# Altium footprint library Package_DIP.PcbLib: 281 footprints (part 17 of 18)
Each footprint in its own frame and in the unit in brackets; x right, y up, seen from the top. Pads: shape width x height; smd on the part's side, far side on the other; paste and mask are expansions set on the pad; w line width, h text height; cw(c..) or ccw(c..) is an arc to the next point about the centre after c.
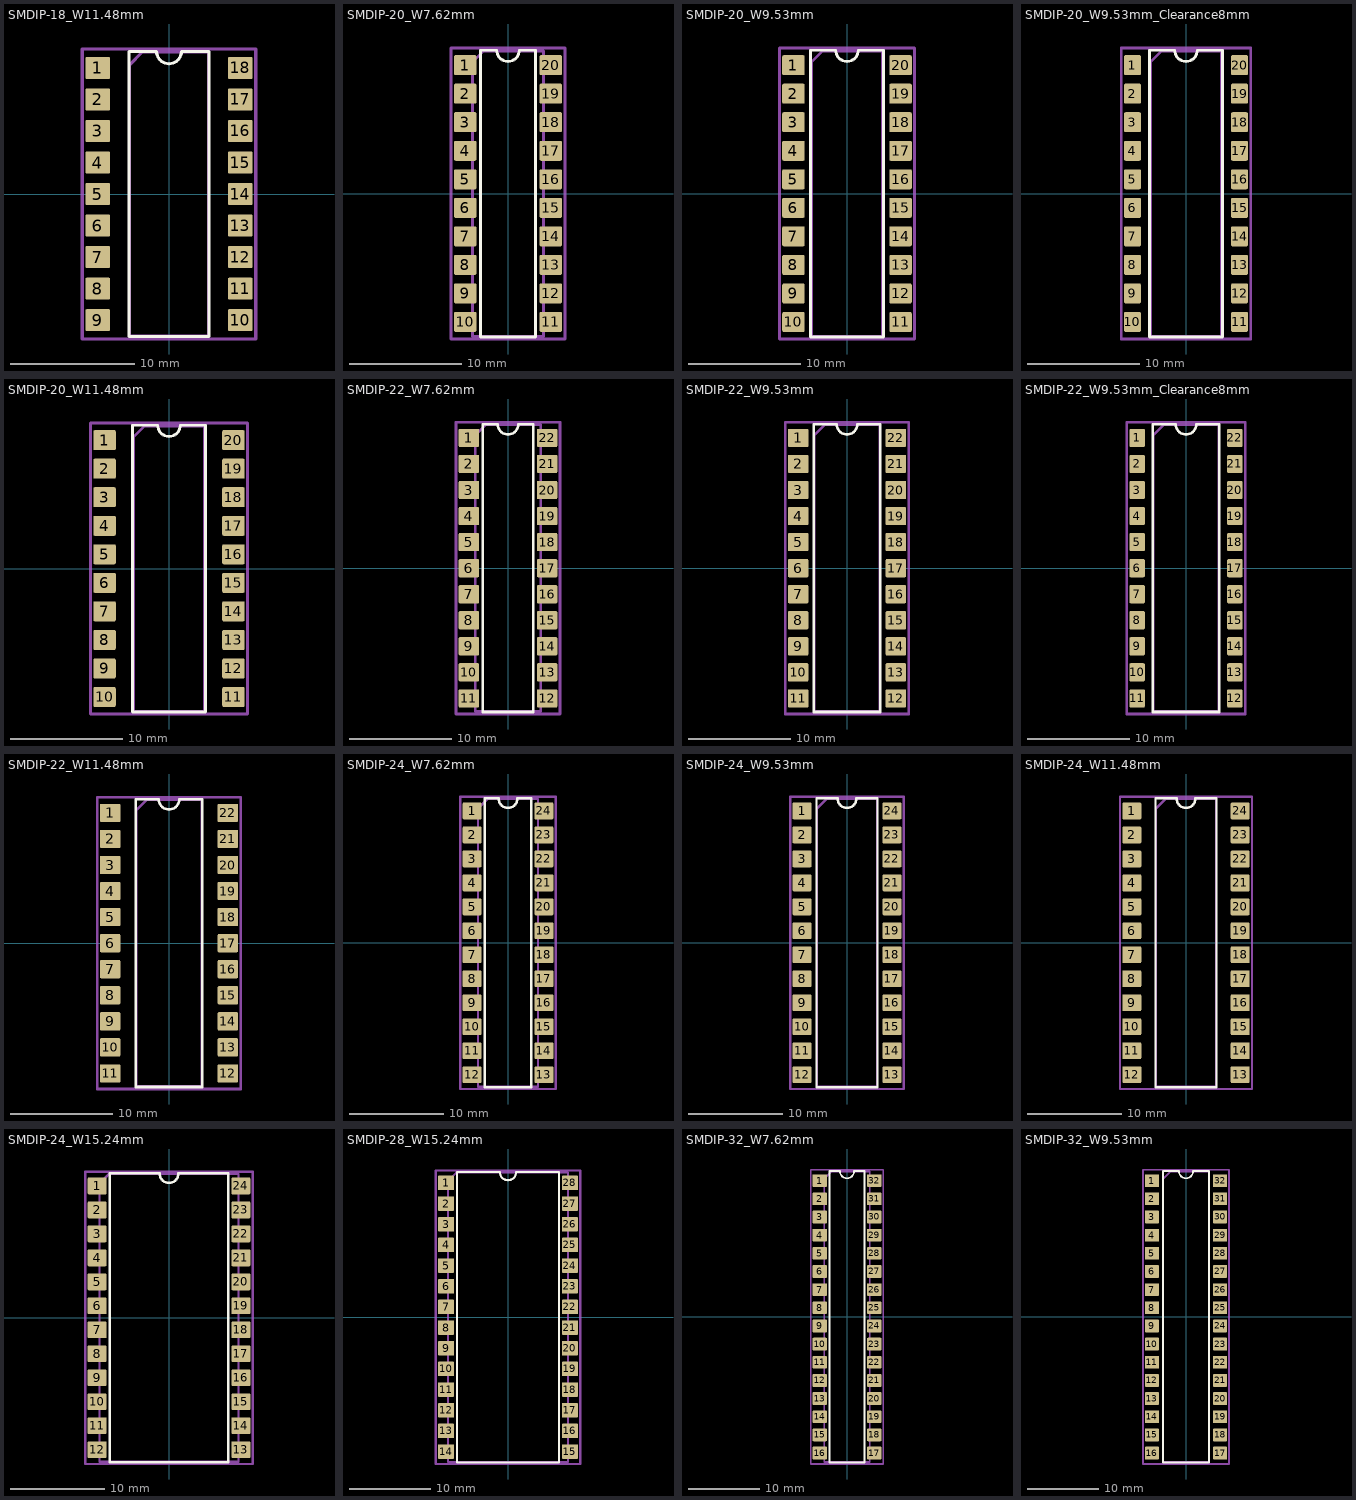
[diagram p16: the footprints below, top view; thin cyan lines are the x and y axes]

## SMDIP-18_W11.48mm [mm]
pads (18):
  rrect14% 2x1.78 smd: 1(-5.74,10.16) 2(-5.74,7.62) 3(-5.74,5.08) 4(-5.74,2.54) 5(-5.74,0) 6(-5.74,-2.54) 7(-5.74,-5.08) 8(-5.74,-7.62) 9(-5.74,-10.16) 10(5.74,-10.16) 11(5.74,-7.62) 12(5.74,-5.08) 13(5.74,-2.54) 14(5.74,0) 15(5.74,2.54) 16(5.74,5.08) 17(5.74,7.62) 18(5.74,10.16)
F.SilkS:
  lines w0.254: -3.235,-11.49 3.235,-11.49 3.235,11.49 1,11.49 cw(c0,11.49) -1,11.49 -3.235,11.49 -3.235,-11.49
Top Assembly:
  lines w0.254: -3.175,-11.43 3.175,-11.43 3.175,11.43 -2.175,11.43 -3.175,10.43 -3.175,-11.43
  text "'.Designator'" at 0.84,-4.047 h1
Top Courtyard:
  lines w0.254: -6.99,-11.68 6.99,-11.68 6.99,11.68 -6.99,11.68 -6.99,-11.68
Top Designator:
  text ".Designator" at -7.618,-0.508 h1.52

## SMDIP-20_W7.62mm [mm]
pads (20):
  rrect14% 2x1.78 smd: 1(-3.81,11.43) 2(-3.81,8.89) 3(-3.81,6.35) 4(-3.81,3.81) 5(-3.81,1.27) 6(-3.81,-1.27) 7(-3.81,-3.81) 8(-3.81,-6.35) 9(-3.81,-8.89) 10(-3.81,-11.43) 11(3.81,-11.43) 12(3.81,-8.89) 13(3.81,-6.35) 14(3.81,-3.81) 15(3.81,-1.27) 16(3.81,1.27) 17(3.81,3.81) 18(3.81,6.35) 19(3.81,8.89) 20(3.81,11.43)
F.SilkS:
  lines w0.254: -2.45,-12.76 2.45,-12.76 2.45,12.76 1,12.76 cw(c0,12.76) -1,12.76 -2.45,12.76 -2.45,-12.76
Top Assembly:
  lines w0.254: -3.175,-12.7 3.175,-12.7 3.175,12.7 -2.175,12.7 -3.175,11.7 -3.175,-12.7
  text "'.Designator'" at 0.84,-4.047 h1
Top Courtyard:
  lines w0.254: -5.07,-12.95 5.07,-12.95 5.07,12.95 -5.07,12.95 -5.07,-12.95
Top Designator:
  text ".Designator" at -7.618,-0.508 h1.52

## SMDIP-20_W9.53mm [mm]
pads (20):
  rrect14% 2x1.78 smd: 1(-4.765,11.43) 2(-4.765,8.89) 3(-4.765,6.35) 4(-4.765,3.81) 5(-4.765,1.27) 6(-4.765,-1.27) 7(-4.765,-3.81) 8(-4.765,-6.35) 9(-4.765,-8.89) 10(-4.765,-11.43) 11(4.765,-11.43) 12(4.765,-8.89) 13(4.765,-6.35) 14(4.765,-3.81) 15(4.765,-1.27) 16(4.765,1.27) 17(4.765,3.81) 18(4.765,6.35) 19(4.765,8.89) 20(4.765,11.43)
F.SilkS:
  lines w0.254: -3.235,-12.76 3.235,-12.76 3.235,12.76 1,12.76 cw(c0,12.76) -1,12.76 -3.235,12.76 -3.235,-12.76
Top Assembly:
  lines w0.254: -3.175,-12.7 3.175,-12.7 3.175,12.7 -2.175,12.7 -3.175,11.7 -3.175,-12.7
  text "'.Designator'" at 0.84,-4.047 h1
Top Courtyard:
  lines w0.254: -6.02,-12.95 6.02,-12.95 6.02,12.95 -6.02,12.95 -6.02,-12.95
Top Designator:
  text ".Designator" at -7.618,-0.508 h1.52

## SMDIP-20_W9.53mm_Clearance8mm [mm]
pads (20):
  rrect17% 1.5x1.78 smd: 1(-4.765,11.43) 2(-4.765,8.89) 3(-4.765,6.35) 4(-4.765,3.81) 5(-4.765,1.27) 6(-4.765,-1.27) 7(-4.765,-3.81) 8(-4.765,-6.35) 9(-4.765,-8.89) 10(-4.765,-11.43) 11(4.765,-11.43) 12(4.765,-8.89) 13(4.765,-6.35) 14(4.765,-3.81) 15(4.765,-1.27) 16(4.765,1.27) 17(4.765,3.81) 18(4.765,6.35) 19(4.765,8.89) 20(4.765,11.43)
F.SilkS:
  lines w0.254: -3.235,-12.76 3.235,-12.76 3.235,12.76 1,12.76 cw(c0,12.76) -1,12.76 -3.235,12.76 -3.235,-12.76
Top Assembly:
  lines w0.254: -3.175,-12.7 3.175,-12.7 3.175,12.7 -2.175,12.7 -3.175,11.7 -3.175,-12.7
  text "'.Designator'" at 0.84,-4.047 h1
Top Courtyard:
  lines w0.254: -5.77,-12.95 5.77,-12.95 5.77,12.95 -5.77,12.95 -5.77,-12.95
Top Designator:
  text ".Designator" at -7.618,-0.508 h1.52

## SMDIP-20_W11.48mm [mm]
pads (20):
  rrect14% 2x1.78 smd: 1(-5.74,11.43) 2(-5.74,8.89) 3(-5.74,6.35) 4(-5.74,3.81) 5(-5.74,1.27) 6(-5.74,-1.27) 7(-5.74,-3.81) 8(-5.74,-6.35) 9(-5.74,-8.89) 10(-5.74,-11.43) 11(5.74,-11.43) 12(5.74,-8.89) 13(5.74,-6.35) 14(5.74,-3.81) 15(5.74,-1.27) 16(5.74,1.27) 17(5.74,3.81) 18(5.74,6.35) 19(5.74,8.89) 20(5.74,11.43)
F.SilkS:
  lines w0.254: -3.235,-12.76 3.235,-12.76 3.235,12.76 1,12.76 cw(c0,12.76) -1,12.76 -3.235,12.76 -3.235,-12.76
Top Assembly:
  lines w0.254: -3.175,-12.7 3.175,-12.7 3.175,12.7 -2.175,12.7 -3.175,11.7 -3.175,-12.7
  text "'.Designator'" at 0.84,-4.047 h1
Top Courtyard:
  lines w0.254: -6.99,-12.95 6.99,-12.95 6.99,12.95 -6.99,12.95 -6.99,-12.95
Top Designator:
  text ".Designator" at -7.618,-0.508 h1.52

## SMDIP-22_W7.62mm [mm]
pads (22):
  rrect14% 2x1.78 smd: 1(-3.81,12.7) 2(-3.81,10.16) 3(-3.81,7.62) 4(-3.81,5.08) 5(-3.81,2.54) 6(-3.81,0) 7(-3.81,-2.54) 8(-3.81,-5.08) 9(-3.81,-7.62) 10(-3.81,-10.16) 11(-3.81,-12.7) 12(3.81,-12.7) 13(3.81,-10.16) 14(3.81,-7.62) 15(3.81,-5.08) 16(3.81,-2.54) 17(3.81,0) 18(3.81,2.54) 19(3.81,5.08) 20(3.81,7.62) 21(3.81,10.16) 22(3.81,12.7)
F.SilkS:
  lines w0.254: -2.45,-14.03 2.45,-14.03 2.45,14.03 1,14.03 cw(c0,14.03) -1,14.03 -2.45,14.03 -2.45,-14.03
Top Assembly:
  lines w0.254: -3.175,-13.97 3.175,-13.97 3.175,13.97 -2.175,13.97 -3.175,12.97 -3.175,-13.97
  text "'.Designator'" at 0.84,-4.047 h1
Top Courtyard:
  lines w0.254: -5.07,-14.22 5.07,-14.22 5.07,14.22 -5.07,14.22 -5.07,-14.22
Top Designator:
  text ".Designator" at -7.618,-0.508 h1.52

## SMDIP-22_W9.53mm [mm]
pads (22):
  rrect14% 2x1.78 smd: 1(-4.765,12.7) 2(-4.765,10.16) 3(-4.765,7.62) 4(-4.765,5.08) 5(-4.765,2.54) 6(-4.765,0) 7(-4.765,-2.54) 8(-4.765,-5.08) 9(-4.765,-7.62) 10(-4.765,-10.16) 11(-4.765,-12.7) 12(4.765,-12.7) 13(4.765,-10.16) 14(4.765,-7.62) 15(4.765,-5.08) 16(4.765,-2.54) 17(4.765,0) 18(4.765,2.54) 19(4.765,5.08) 20(4.765,7.62) 21(4.765,10.16) 22(4.765,12.7)
F.SilkS:
  lines w0.254: -3.235,-14.03 3.235,-14.03 3.235,14.03 1,14.03 cw(c0,14.03) -1,14.03 -3.235,14.03 -3.235,-14.03
Top Assembly:
  lines w0.254: -3.175,-13.97 3.175,-13.97 3.175,13.97 -2.175,13.97 -3.175,12.97 -3.175,-13.97
  text "'.Designator'" at 0.84,-4.047 h1
Top Courtyard:
  lines w0.254: -6.02,-14.22 6.02,-14.22 6.02,14.22 -6.02,14.22 -6.02,-14.22
Top Designator:
  text ".Designator" at -7.618,-0.508 h1.52

## SMDIP-22_W9.53mm_Clearance8mm [mm]
pads (22):
  rrect17% 1.5x1.78 smd: 1(-4.765,12.7) 2(-4.765,10.16) 3(-4.765,7.62) 4(-4.765,5.08) 5(-4.765,2.54) 6(-4.765,0) 7(-4.765,-2.54) 8(-4.765,-5.08) 9(-4.765,-7.62) 10(-4.765,-10.16) 11(-4.765,-12.7) 12(4.765,-12.7) 13(4.765,-10.16) 14(4.765,-7.62) 15(4.765,-5.08) 16(4.765,-2.54) 17(4.765,0) 18(4.765,2.54) 19(4.765,5.08) 20(4.765,7.62) 21(4.765,10.16) 22(4.765,12.7)
F.SilkS:
  lines w0.254: -3.235,-14.03 3.235,-14.03 3.235,14.03 1,14.03 cw(c0,14.03) -1,14.03 -3.235,14.03 -3.235,-14.03
Top Assembly:
  lines w0.254: -3.175,-13.97 3.175,-13.97 3.175,13.97 -2.175,13.97 -3.175,12.97 -3.175,-13.97
  text "'.Designator'" at 0.84,-4.047 h1
Top Courtyard:
  lines w0.254: -5.77,-14.22 5.77,-14.22 5.77,14.22 -5.77,14.22 -5.77,-14.22
Top Designator:
  text ".Designator" at -7.618,-0.508 h1.52

## SMDIP-22_W11.48mm [mm]
pads (22):
  rrect14% 2x1.78 smd: 1(-5.74,12.7) 2(-5.74,10.16) 3(-5.74,7.62) 4(-5.74,5.08) 5(-5.74,2.54) 6(-5.74,0) 7(-5.74,-2.54) 8(-5.74,-5.08) 9(-5.74,-7.62) 10(-5.74,-10.16) 11(-5.74,-12.7) 12(5.74,-12.7) 13(5.74,-10.16) 14(5.74,-7.62) 15(5.74,-5.08) 16(5.74,-2.54) 17(5.74,0) 18(5.74,2.54) 19(5.74,5.08) 20(5.74,7.62) 21(5.74,10.16) 22(5.74,12.7)
F.SilkS:
  lines w0.254: -3.235,-14.03 3.235,-14.03 3.235,14.03 1,14.03 cw(c0,14.03) -1,14.03 -3.235,14.03 -3.235,-14.03
Top Assembly:
  lines w0.254: -3.175,-13.97 3.175,-13.97 3.175,13.97 -2.175,13.97 -3.175,12.97 -3.175,-13.97
  text "'.Designator'" at 0.84,-4.047 h1
Top Courtyard:
  lines w0.254: -6.99,-14.22 6.99,-14.22 6.99,14.22 -6.99,14.22 -6.99,-14.22
Top Designator:
  text ".Designator" at -7.618,-0.508 h1.52

## SMDIP-24_W7.62mm [mm]
pads (24):
  rrect14% 2x1.78 smd: 1(-3.81,13.97) 2(-3.81,11.43) 3(-3.81,8.89) 4(-3.81,6.35) 5(-3.81,3.81) 6(-3.81,1.27) 7(-3.81,-1.27) 8(-3.81,-3.81) 9(-3.81,-6.35) 10(-3.81,-8.89) 11(-3.81,-11.43) 12(-3.81,-13.97) 13(3.81,-13.97) 14(3.81,-11.43) 15(3.81,-8.89) 16(3.81,-6.35) 17(3.81,-3.81) 18(3.81,-1.27) 19(3.81,1.27) 20(3.81,3.81) 21(3.81,6.35) 22(3.81,8.89) 23(3.81,11.43) 24(3.81,13.97)
F.SilkS:
  lines w0.254: -2.45,-15.3 2.45,-15.3 2.45,15.3 1,15.3 cw(c0,15.3) -1,15.3 -2.45,15.3 -2.45,-15.3
Top Assembly:
  lines w0.254: -3.175,-15.24 3.175,-15.24 3.175,15.24 -2.175,15.24 -3.175,14.24 -3.175,-15.24
  text "'.Designator'" at 0.84,-4.047 h1
Top Courtyard:
  lines w0.254: -5.07,-15.49 5.07,-15.49 5.07,15.49 -5.07,15.49 -5.07,-15.49
Top Designator:
  text ".Designator" at -7.618,-0.508 h1.52

## SMDIP-24_W9.53mm [mm]
pads (24):
  rrect14% 2x1.78 smd: 1(-4.765,13.97) 2(-4.765,11.43) 3(-4.765,8.89) 4(-4.765,6.35) 5(-4.765,3.81) 6(-4.765,1.27) 7(-4.765,-1.27) 8(-4.765,-3.81) 9(-4.765,-6.35) 10(-4.765,-8.89) 11(-4.765,-11.43) 12(-4.765,-13.97) 13(4.765,-13.97) 14(4.765,-11.43) 15(4.765,-8.89) 16(4.765,-6.35) 17(4.765,-3.81) 18(4.765,-1.27) 19(4.765,1.27) 20(4.765,3.81) 21(4.765,6.35) 22(4.765,8.89) 23(4.765,11.43) 24(4.765,13.97)
F.SilkS:
  lines w0.254: -3.235,-15.3 3.235,-15.3 3.235,15.3 1,15.3 cw(c0,15.3) -1,15.3 -3.235,15.3 -3.235,-15.3
Top Assembly:
  lines w0.254: -3.175,-15.24 3.175,-15.24 3.175,15.24 -2.175,15.24 -3.175,14.24 -3.175,-15.24
  text "'.Designator'" at 0.84,-4.047 h1
Top Courtyard:
  lines w0.254: -6.02,-15.49 6.02,-15.49 6.02,15.49 -6.02,15.49 -6.02,-15.49
Top Designator:
  text ".Designator" at -7.618,-0.508 h1.52

## SMDIP-24_W11.48mm [mm]
pads (24):
  rrect14% 2x1.78 smd: 1(-5.74,13.97) 2(-5.74,11.43) 3(-5.74,8.89) 4(-5.74,6.35) 5(-5.74,3.81) 6(-5.74,1.27) 7(-5.74,-1.27) 8(-5.74,-3.81) 9(-5.74,-6.35) 10(-5.74,-8.89) 11(-5.74,-11.43) 12(-5.74,-13.97) 13(5.74,-13.97) 14(5.74,-11.43) 15(5.74,-8.89) 16(5.74,-6.35) 17(5.74,-3.81) 18(5.74,-1.27) 19(5.74,1.27) 20(5.74,3.81) 21(5.74,6.35) 22(5.74,8.89) 23(5.74,11.43) 24(5.74,13.97)
F.SilkS:
  lines w0.254: -3.235,-15.3 3.235,-15.3 3.235,15.3 1,15.3 cw(c0,15.3) -1,15.3 -3.235,15.3 -3.235,-15.3
Top Assembly:
  lines w0.254: -3.175,-15.24 3.175,-15.24 3.175,15.24 -2.175,15.24 -3.175,14.24 -3.175,-15.24
  text "'.Designator'" at 0.84,-4.047 h1
Top Courtyard:
  lines w0.254: -6.99,-15.49 6.99,-15.49 6.99,15.49 -6.99,15.49 -6.99,-15.49
Top Designator:
  text ".Designator" at -7.618,-0.508 h1.52

## SMDIP-24_W15.24mm [mm]
pads (24):
  rrect14% 2x1.78 smd: 1(-7.62,13.97) 2(-7.62,11.43) 3(-7.62,8.89) 4(-7.62,6.35) 5(-7.62,3.81) 6(-7.62,1.27) 7(-7.62,-1.27) 8(-7.62,-3.81) 9(-7.62,-6.35) 10(-7.62,-8.89) 11(-7.62,-11.43) 12(-7.62,-13.97) 13(7.62,-13.97) 14(7.62,-11.43) 15(7.62,-8.89) 16(7.62,-6.35) 17(7.62,-3.81) 18(7.62,-1.27) 19(7.62,1.27) 20(7.62,3.81) 21(7.62,6.35) 22(7.62,8.89) 23(7.62,11.43) 24(7.62,13.97)
F.SilkS:
  lines w0.254: -6.26,-15.3 6.26,-15.3 6.26,15.3 1,15.3 cw(c0,15.3) -1,15.3 -6.26,15.3 -6.26,-15.3
Top Assembly:
  lines w0.254: -7.365,-15.24 7.365,-15.24 7.365,15.24 -6.365,15.24 -7.365,14.24 -7.365,-15.24
  text "'.Designator'" at 0.84,-4.047 h1
Top Courtyard:
  lines w0.254: -8.88,-15.49 8.88,-15.49 8.88,15.49 -8.88,15.49 -8.88,-15.49
Top Designator:
  text ".Designator" at -7.618,-0.508 h1.52

## SMDIP-28_W15.24mm [mm]
pads (28):
  rrect14% 2x1.78 smd: 1(-7.62,16.51) 2(-7.62,13.97) 3(-7.62,11.43) 4(-7.62,8.89) 5(-7.62,6.35) 6(-7.62,3.81) 7(-7.62,1.27) 8(-7.62,-1.27) 9(-7.62,-3.81) 10(-7.62,-6.35) 11(-7.62,-8.89) 12(-7.62,-11.43) 13(-7.62,-13.97) 14(-7.62,-16.51) 15(7.62,-16.51) 16(7.62,-13.97) 17(7.62,-11.43) 18(7.62,-8.89) 19(7.62,-6.35) 20(7.62,-3.81) 21(7.62,-1.27) 22(7.62,1.27) 23(7.62,3.81) 24(7.62,6.35) 25(7.62,8.89) 26(7.62,11.43) 27(7.62,13.97) 28(7.62,16.51)
F.SilkS:
  lines w0.254: -6.26,-17.84 6.26,-17.84 6.26,17.84 1,17.84 cw(c0,17.84) -1,17.84 -6.26,17.84 -6.26,-17.84
Top Assembly:
  lines w0.254: -7.365,-17.78 7.365,-17.78 7.365,17.78 -6.365,17.78 -7.365,16.78 -7.365,-17.78
  text "'.Designator'" at 0.84,-4.047 h1
Top Courtyard:
  lines w0.254: -8.88,-18.04 8.88,-18.04 8.88,18.04 -8.88,18.04 -8.88,-18.04
Top Designator:
  text ".Designator" at -7.618,-0.508 h1.52

## SMDIP-32_W7.62mm [mm]
pads (32):
  rrect14% 2x1.78 smd: 1(-3.81,19.05) 2(-3.81,16.51) 3(-3.81,13.97) 4(-3.81,11.43) 5(-3.81,8.89) 6(-3.81,6.35) 7(-3.81,3.81) 8(-3.81,1.27) 9(-3.81,-1.27) 10(-3.81,-3.81) 11(-3.81,-6.35) 12(-3.81,-8.89) 13(-3.81,-11.43) 14(-3.81,-13.97) 15(-3.81,-16.51) 16(-3.81,-19.05) 17(3.81,-19.05) 18(3.81,-16.51) 19(3.81,-13.97) 20(3.81,-11.43) 21(3.81,-8.89) 22(3.81,-6.35) 23(3.81,-3.81) 24(3.81,-1.27) 25(3.81,1.27) 26(3.81,3.81) 27(3.81,6.35) 28(3.81,8.89) 29(3.81,11.43) 30(3.81,13.97) 31(3.81,16.51) 32(3.81,19.05)
F.SilkS:
  lines w0.254: -2.45,-20.38 2.45,-20.38 2.45,20.38 1,20.38 cw(c0,20.38) -1,20.38 -2.45,20.38 -2.45,-20.38
Top Assembly:
  lines w0.254: -3.175,-20.32 3.175,-20.32 3.175,20.32 -2.175,20.32 -3.175,19.32 -3.175,-20.32
  text "'.Designator'" at 0.84,-4.047 h1
Top Courtyard:
  lines w0.254: -5.07,-20.58 5.07,-20.58 5.07,20.58 -5.07,20.58 -5.07,-20.58
Top Designator:
  text ".Designator" at -7.618,-0.508 h1.52

## SMDIP-32_W9.53mm [mm]
pads (32):
  rrect14% 2x1.78 smd: 1(-4.765,19.05) 2(-4.765,16.51) 3(-4.765,13.97) 4(-4.765,11.43) 5(-4.765,8.89) 6(-4.765,6.35) 7(-4.765,3.81) 8(-4.765,1.27) 9(-4.765,-1.27) 10(-4.765,-3.81) 11(-4.765,-6.35) 12(-4.765,-8.89) 13(-4.765,-11.43) 14(-4.765,-13.97) 15(-4.765,-16.51) 16(-4.765,-19.05) 17(4.765,-19.05) 18(4.765,-16.51) 19(4.765,-13.97) 20(4.765,-11.43) 21(4.765,-8.89) 22(4.765,-6.35) 23(4.765,-3.81) 24(4.765,-1.27) 25(4.765,1.27) 26(4.765,3.81) 27(4.765,6.35) 28(4.765,8.89) 29(4.765,11.43) 30(4.765,13.97) 31(4.765,16.51) 32(4.765,19.05)
F.SilkS:
  lines w0.254: -3.235,-20.38 3.235,-20.38 3.235,20.38 1,20.38 cw(c0,20.38) -1,20.38 -3.235,20.38 -3.235,-20.38
Top Assembly:
  lines w0.254: -3.175,-20.32 3.175,-20.32 3.175,20.32 -2.175,20.32 -3.175,19.32 -3.175,-20.32
  text "'.Designator'" at 0.84,-4.047 h1
Top Courtyard:
  lines w0.254: -6.02,-20.58 6.02,-20.58 6.02,20.58 -6.02,20.58 -6.02,-20.58
Top Designator:
  text ".Designator" at -7.618,-0.508 h1.52